# EAGLE library part SWD_TAGCONNECT (library CASE-Prog_Header)
SWD Programming header (Tag-Connect version) Description: SWD Programming header for Tag Connect TC2030-IDC, both legged and no-legged version Links: Tag-Connect <http://www.tag-connect.com/JLINK>
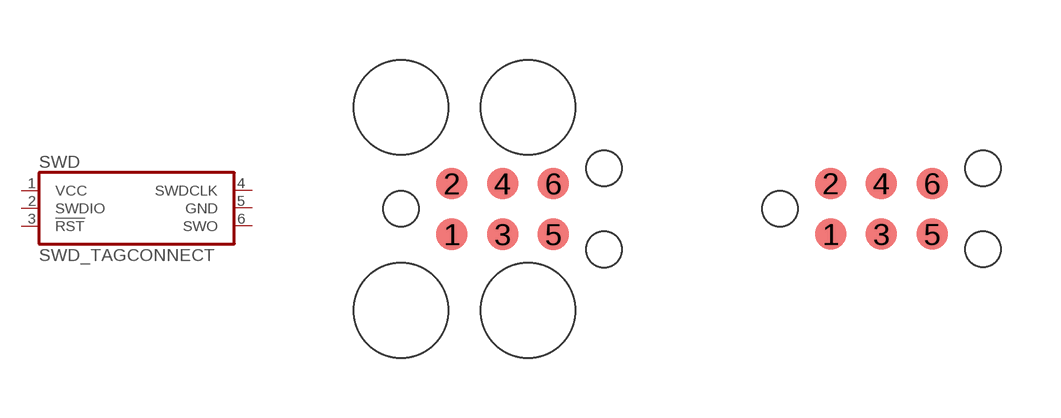
[diagram p0: symbol with the pads of TC2030-IDC; footprints TC2030-IDC, TC2030-IDC-NL]

Designator prefix SWD

## SWD_TAGCONNECTLEGGED  [TC2030-IDC]
1  VCC  pas
2  SWDIO  pas
3  !RST  pas
4  SWDCLK  pas
5  GND  pas
6  SWO  pas

## SWD_TAGCONNECTNO-LEG  [TC2030-IDC-NL]
Pads as for TC2030-IDC

## Footprint TC2030-IDC (pad centres in mm)
TAG-CONNECT ICSP Connector - Legged version Manufacturer: Tag-Connect <http://www.tag-connect.com> Cable for easy In-Circuit Serial Programming. Designed for Microchip ICD2, suitable for many others. NOTE: Eagle's default spacing for drill holes does not leave sufficent room for routing traces for this footprint and should be adjusted. This setting can be found in the board layout editor under the Edit menu. Select "Design Rules" and then the Distance tab. 8 mils for Drill/Hole works well. PAD Description 1 MCLR/Vpp 2 Vdd 3 GND 4 PGD (ISPDAT) 5 PGC (ISPCLK) 6 nc (used for LVP) ©2009 ROFA.cz - modified and updated by Robert Darlington ‹rdarlington@gmail.com›
smd 0.787 x 0.787: 1 1.27,-0.635; 2 1.27,0.635; 3 2.54,-0.635; 4 2.54,0.635; 5 3.81,-0.635; 6 3.81,0.635
hole 0.889 at 0,0
hole 0.889 at 5.08,-1.016
hole 0.889 at 5.08,1.016
hole 2.375 at 0,2.54
hole 2.375 at 0,-2.54
hole 2.375 at 3.175,-2.54
hole 2.375 at 3.175,2.54

## Footprint TC2030-IDC-NL (pad centres in mm)
TAG-CONNECT ICSP Connector Manufacturer: Tag-Connect <www.tag-connect.com> Cable for easy In-Circuit Serial Programming. Designed for Microchip ICD2, suitable for many others. PAD Description 1 MCLR/Vpp 2 Vdd 3 GND 4 PGD (ISPDAT) 5 PGC (ISPCLK) 6 nc (used for LVP) ©2009 ROFA.cz - modified and updated by Robert Darlington ‹rdarlington@gmail.com›
smd 0.787 x 0.787: 1 1.27,-0.635; 2 1.27,0.635; 3 2.54,-0.635; 4 2.54,0.635; 5 3.81,-0.635; 6 3.81,0.635
hole 0.889 at 0,0
hole 0.889 at 5.08,-1.016
hole 0.889 at 5.08,1.016